# Altium footprint library project-2022.PcbLib: 27 footprints (part 2 of 2)
Each footprint in its own frame and in the unit in brackets; x right, y up, seen from the top. Pads: shape width x height; smd on the part's side, far side on the other; paste and mask are expansions set on the pad; w line width, h text height; cw(c..) or ccw(c..) is an arc to the next point about the centre after c.
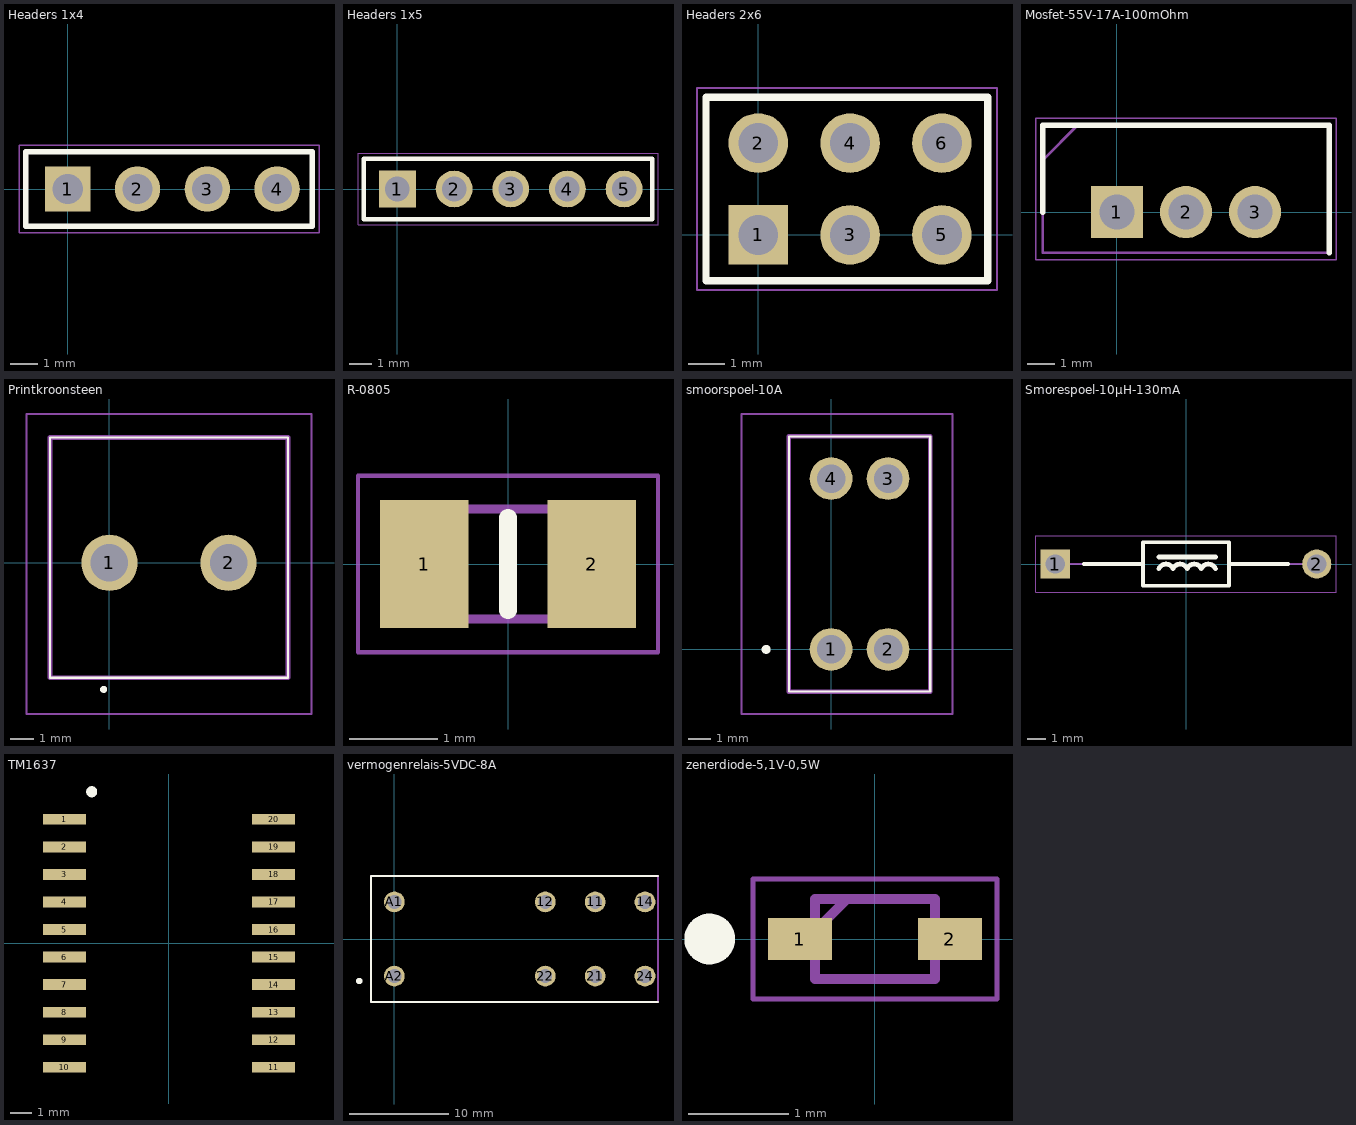
[diagram p1: the footprints below, top view; thin cyan lines are the x and y axes]

## Headers 1x4 [mm]
pads (4):
  rect 1.65x1.65 hole 1.1: 1(0,0)
  round 1.65 hole 1.1: 2(2.54,0) 3(5.08,0) 4(7.62,0)
Top Overlay:
  lines w0.2: -1.52,-1.35 8.89,-1.35 8.89,1.35 -1.52,1.35 -1.52,-1.35
Mechanical 13:
  lines w0.1: -1.52,-1.35 8.89,-1.35 8.89,1.35 -1.52,1.35 -1.52,-1.35
Mechanical 15:
  lines w0.05: -1.77,-1.6 9.144,-1.6 9.144,1.6 -1.77,1.6 -1.77,-1.6

## Headers 1x5 [mm]
pads (5):
  rect 1.65x1.65 hole 1.1: 1(0,0)
  round 1.65 hole 1.1: 2(2.54,0) 3(5.08,0) 4(7.62,0) 5(10.16,0)
Top Overlay:
  lines w0.2: -1.52,-1.35 -1.52,1.35 11.43,1.35 11.43,-1.35 -1.52,-1.35
Mechanical 13:
  lines w0.1: -1.52,-1.35 -1.52,1.35 11.43,1.35 11.43,-1.35 -1.52,-1.35
Mechanical 15:
  lines w0.05: -1.77,-1.6 -1.77,1.6 11.684,1.6 11.684,-1.6 -1.77,-1.6

## Headers 2x6 [mm]
pads (6):
  rect 1.65x1.65 hole 1.1: 1(0,0)
  round 1.65 hole 1.1: 2(0,2.54) 3(2.54,0) 4(2.54,2.54) 5(5.08,0) 6(5.08,2.54)
Top Overlay:
  lines w0.2: -1.445,-1.27 -1.445,3.81 6.35,3.81 6.35,-1.27 -1.445,-1.27
Mechanical 13:
  lines w0.1: -1.445,-1.27 -1.445,3.81 6.35,3.81 6.35,-1.27 -1.445,-1.27
Mechanical 15:
  lines w0.05: -1.695,-1.52 -1.695,4.06 6.604,4.06 6.604,-1.52 -1.695,-1.52

## Mosfet-55V-17A-100mOhm [mm]
pads (3):
  rect 1.92x1.92 hole 1.28: 1(0,0)
  round 1.92 hole 1.28: 2(2.54,0) 3(5.08,0)
Top Overlay:
  lines w0.2: -2.73,0 -2.73,3.195 7.81,3.195 7.81,-1.495
Mechanical 13:
  lines w0.1: -2.73,1.925 -1.46,3.195 ; -2.73,-1.495 7.81,-1.495 7.81,3.195 -2.73,3.195 -2.73,-1.495
Mechanical 15:
  lines w0.05: -2.98,-1.745 8.06,-1.745 8.06,3.445 -2.98,3.445 -2.98,-1.745
3D body "IRF9Z34NPBF.stp": height 18.84, standoff -17.51, extent -2.668,-1.495 7.748,3.195

## Printkroonsteen [mm]
pads (2):
  round 2.4 hole 1.6: 1(0,0) 2(5.08,0)
Top Overlay:
  lines w0.1: -2.54,-4.9 -2.54,5.35 7.62,5.35 7.62,-4.9 -2.54,-4.9
  lines w0.2: -0.3,-5.4 ccw(c-0.25,-5.4) -0.2,-5.4 ; -0.3,-5.4 cw(c-0.25,-5.4) -0.2,-5.4 ; -0.3,-5.4 ccw(c-0.25,-5.4) -0.2,-5.4
Mechanical 13:
  lines w0.2: -2.54,-4.9 -2.54,5.35 7.62,5.35 7.62,-4.9 -2.54,-4.9
Mechanical 15:
  lines w0.1: -3.54,-6.45 -3.54,6.35 8.62,6.35 8.62,-6.45 -3.54,-6.45
3D body "TB007-508-02BE.stp": height 14.1, standoff -5, extent -2.54,-4.9 7.62,5.35

## R-0805 [mm]
pads (2):
  rect 1x1.45 smd: 1(-0.95,0) 2(0.95,0)
Top Overlay:
  lines w0.2: 0,-0.525 0,0.525
Mechanical 13:
  lines w0.1: -1,-0.625 1,-0.625 1,0.625 -1,0.625 -1,-0.625
Mechanical 15:
  lines w0.05: -1.7,-1 1.7,-1 1.7,1 -1.7,1 -1.7,-1
3D body "TNPU0805500RAZEN00.stp": height 0.55, standoff 0, extent -1,-0.625 1,0.625

## smoorspoel-10A [mm]
pads (4):
  round 1.905 hole 1.27: 1(0,0) 2(2.54,0) 3(2.54,7.62) 4(0,7.62)
Top Overlay:
  lines w0.1: -1.88,-1.88 -1.88,9.5 4.42,9.5 4.42,-1.88 -1.88,-1.88
  lines w0.2: -3,0 cw(c-2.9,0) -2.8,0 cw(c-2.9,0) -3,0
Mechanical 13:
  lines w0.2: -1.88,-1.88 -1.88,9.5 4.42,9.5 4.42,-1.88 -1.88,-1.88
Mechanical 15:
  lines w0.1: -4,-2.88 -4,10.5 5.42,10.5 5.42,-2.88 -4,-2.88
3D body "CM2545X171B-10.stp": height 9.6, standoff -5, extent -1.88,-1.88 4.42,9.5

## Smorespoel-10µH-130mA [mm]
pads (2):
  rect 1.575x1.575 hole 1.05: 1(-7.05,0)
  round 1.575 hole 1.05: 2(7.05,0)
Top Overlay:
  lines w0.2: -5.5,0 -2.318,0 ; 2.318,0 5.5,0 ; -2.318,-1.18 2.318,-1.18 2.318,1.18 -2.318,1.18 -2.318,-1.18
  lines w0.254: -1.462,-0.254 cw(c-1.081,-0.413) -0.7,-0.254 cw(c-0.319,-0.413) 0.062,-0.254 cw(c0.443,-0.413) 0.824,-0.254 cw(c1.205,-0.413) 1.586,-0.254 ; -1.462,0.381 1.586,0.381
Mechanical 13:
  lines w0.1: -7.05,0 -2.318,0 ; 2.318,0 7.05,0 ; -2.318,-1.18 2.317,-1.18 2.317,1.18 -2.318,1.18 -2.318,-1.18
Mechanical 15:
  lines w0.05: -8.088,-1.53 8.087,-1.53 8.087,1.53 -8.088,1.53 -8.088,-1.53
3D body "1N4007-T.stp": height 2.71, standoff -2.72, extent -7.479,-1.357 7.457,1.357

## TM1637 [mm]
height 0.254
pads (20):
  rect 2x0.5 smd: 1(-4.818,5.715) 2(-4.818,4.445) 3(-4.818,3.175) 4(-4.818,1.905) 5(-4.818,0.635) 6(-4.818,-0.635) 7(-4.818,-1.905) 8(-4.818,-3.175) 9(-4.818,-4.445) 10(-4.818,-5.715) 11(4.818,-5.715) 12(4.818,-4.445) 13(4.818,-3.175) 14(4.818,-1.905) 15(4.818,-0.635) 16(4.818,0.635) 17(4.818,1.905) 18(4.818,3.175) 19(4.818,4.445) 20(4.818,5.715)
Top Overlay:
  circle w0.254: c-3.564,6.985 r0.127

## vermogenrelais-5VDC-8A [mm]
pads (8):
  round 2.1 hole 1.4: 11(20.3,3.75) 12(15.26,3.75) 14(25.34,3.75) 21(20.3,-3.75) 22(15.26,-3.75) 24(25.34,-3.75) A1(0,3.75) A2(0,-3.75)
Top Overlay:
  circle w0.4: c-3.547,-4.246 r0.126
  lines w0.2: 26.65,-6.35 -2.35,-6.35 -2.35,6.35 26.65,6.35
Mechanical 13:
  lines w0.2: -2.35,-6.35 -2.35,6.35 26.65,6.35 26.65,-6.35 -2.35,-6.35
3D body "RT424005.stp": height 15.86, standoff -2.94, extent -2.21,-6.35 26.79,6.35

## zenerdiode-5,1V-0,5W [mm]
pads (2):
  rect 0.64x0.42 smd: 1(-0.75,0) 2(0.75,0)
Top Overlay:
  circle w0.254: c-1.651,0 r0.127
Mechanical 13:
  lines w0.1: -0.6,0.08 -0.28,0.4 ; -0.6,-0.4 0.6,-0.4 0.6,0.4 -0.6,0.4 -0.6,-0.4
Mechanical 15:
  lines w0.05: -1.22,-0.6 1.22,-0.6 1.22,0.6 -1.22,0.6 -1.22,-0.6
3D body "MM5Z4689T1G.stp": height 0.7, standoff 0, extent -0.8,-0.4 0.8,0.4